# Altium footprint library XG_DW_POCT_2K10LED_V2.0_2024.11.151.PcbLib: 120 footprints (part 1 of 8)
Each footprint in its own frame and in the unit in brackets; x right, y up, seen from the top. Pads: shape width x height; smd on the part's side, far side on the other; paste and mask are expansions set on the pad; w line width, h text height; cw(c..) or ccw(c..) is an arc to the next point about the centre after c.
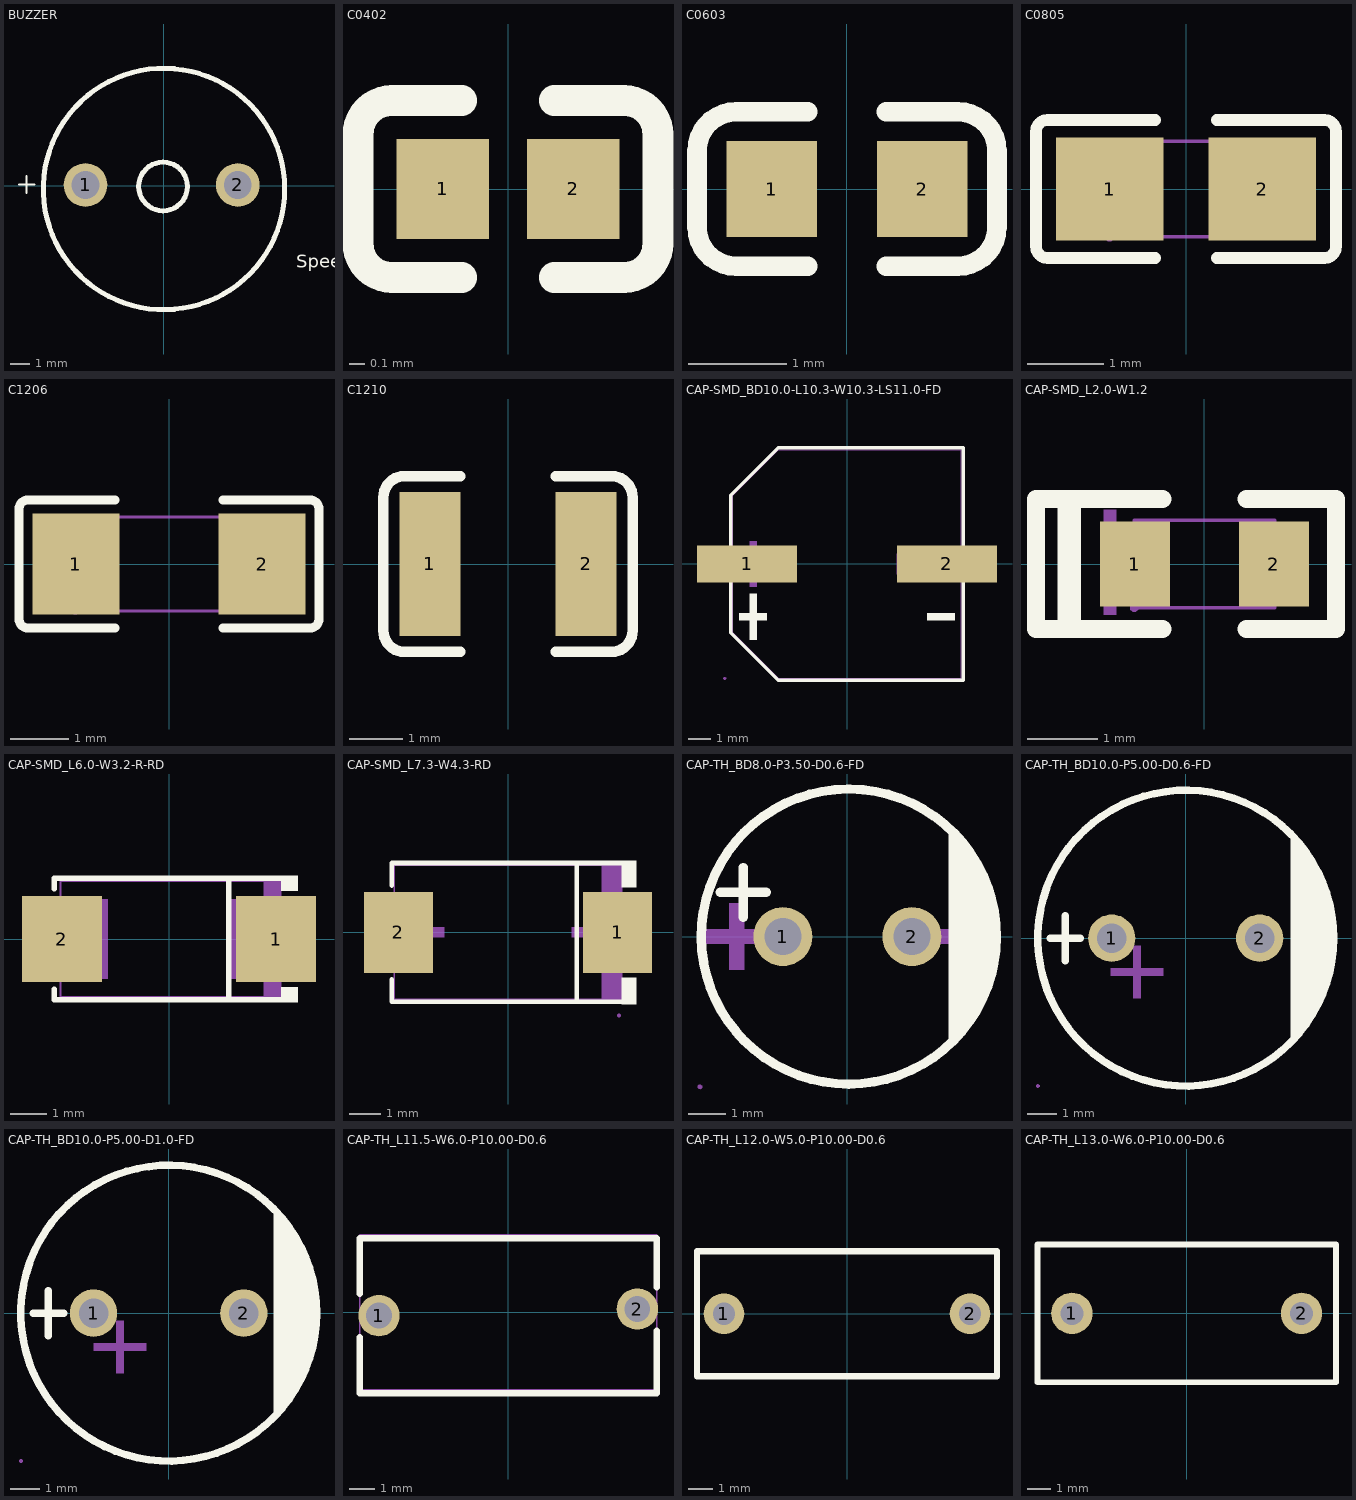
[diagram p0: the footprints below, top view; thin cyan lines are the x and y axes]

## BUZZER [mm]
height 9.6
pads (2):
  round 2.2 hole 1.4: 1(-3.937,0.051) 2(3.734,0.051)
Top Overlay:
  circle w0.254: c0.015,-0.152 r6.081
  circle w0.254: c-0.034,-0.025 r1.228
  lines w0.1: -7.29,0.076 -6.502,0.076 ; -6.909,-0.356 -6.909,0.508
  text "Speeker" at 6.68,-4.343 h1.14

## C0402 [mm]
pads (2):
  rect 0.6x0.65 smd mask+0.051: 1(-0.425,0) 2(0.425,0)
Top Overlay:
  lines w0.2: -0.755,-0.575 cw(c-0.755,-0.355) -0.975,-0.355 -0.975,0.355 cw(c-0.755,0.355) -0.755,0.575 ; -0.75,-0.575 -0.3,-0.575 ; -0.75,0.575 -0.3,0.575 ; 0.3,-0.575 0.75,-0.575 ; 0.3,0.575 0.75,0.575 ; 0.755,-0.575 ccw(c0.755,-0.355) 0.975,-0.355 0.975,0.355 ccw(c0.755,0.355) 0.755,0.575
3D body "0402 SMD Capacitor.step": height 0.2, standoff 0, extent -0.483,-0.3 0.517,0.3

## C0603 [mm]
pads (2):
  rect 0.93x0.98 smd: 1(-0.77,0) 2(0.77,0)
Top Overlay:
  lines w0.2: -0.4,-0.79 -1.135,-0.79 cw(c-1.135,-0.39) -1.535,-0.39 -1.535,0.39 cw(c-1.135,0.39) -1.135,0.79 -0.4,0.79 ; 0.4,-0.79 1.135,-0.79 ccw(c1.135,-0.39) 1.535,-0.39 1.535,0.39 ccw(c1.135,0.39) 1.135,0.79 0.4,0.79
3D body "User Library-0603 SMD Capacitor.STEP": height 0.3, standoff 0, extent -0.8,-0.4 0.8,0.4

## C0805 [mm]
pads (2):
  rect 1.41x1.35 smd paste-100 mask+0.051: 1(-1,0) 2(1,0)
Top Overlay:
  lines w0.152: -0.401,-0.904 -1.811,-0.904 cw(c-1.811,-0.751) -1.964,-0.751 -1.964,0.751 cw(c-1.811,0.751) -1.811,0.904 -0.401,0.904 ; 0.401,-0.904 1.811,-0.904 ccw(c1.811,-0.751) 1.964,-0.751 1.964,0.751 ccw(c1.811,0.751) 1.811,0.904 0.401,0.904
Top Paste:
  region: -1.705,-0.64 -1.705,0.64 -1.655,0.69 -0.505,0.69 -0.455,0.64 -0.45,0.23 -0.9,0.23 -0.9,-0.22 -0.46,-0.22 -0.455,-0.64 -0.505,-0.69 -1.655,-0.69
  region: 1.705,0.64 1.705,-0.64 1.655,-0.69 0.505,-0.69 0.455,-0.64 0.45,-0.23 0.9,-0.23 0.9,0.22 0.46,0.22 0.455,0.64 0.505,0.69 1.655,0.69
Mechanical 15:
  region: -1,-0.685 -0.976,-0.685 -0.941,-0.65 -0.941,-0.601 -0.976,-0.566 -1,-0.565 -1.024,-0.566 -1.059,-0.601 -1.059,-0.65 -1.024,-0.685 -1,-0.685
  region: -1,-0.625 -1,0.625 -0.5,0.625 -0.5,-0.625
  region: 1,0.625 1,-0.625 0.5,-0.625 0.5,0.625
  lines w0.051: -1,-0.625 -1,0.625 1,0.625 1,-0.625 -1,-0.625

## C1206 [mm]
pads (2):
  rect 1.485x1.728 smd paste-100 mask+0.051: 1(-1.593,0) 2(1.593,0)
Top Overlay:
  lines w0.152: -0.926,-1.093 -2.411,-1.093 cw(c-2.411,-0.94) -2.564,-0.94 -2.564,0.94 cw(c-2.411,0.94) -2.411,1.093 -0.926,1.093 ; 0.926,-1.093 2.411,-1.093 ccw(c2.411,-0.94) 2.564,-0.94 2.564,0.94 ccw(c2.411,0.94) 2.411,1.093 0.926,1.093
Top Paste:
  region: -0.85,-0.764 -0.85,-0.394 -0.95,-0.294 -1.255,-0.294 -1.355,-0.194 -1.355,0.194 -1.255,0.294 -0.95,0.294 -0.85,0.394 -0.85,0.764 -0.95,0.864 -2.235,0.864 -2.335,0.764 -2.335,-0.764 -2.235,-0.864 -0.95,-0.864
  region: 0.85,-0.764 0.85,-0.394 0.95,-0.294 1.255,-0.294 1.355,-0.194 1.355,0.194 1.255,0.294 0.95,0.294 0.85,0.394 0.85,0.764 0.95,0.864 2.235,0.864 2.335,0.764 2.335,-0.764 2.235,-0.864 0.95,-0.864
Mechanical 15:
  region: 1.6,-0.8 1.6,0.8 1.1,0.8 1.1,-0.8
  region: -1.6,-0.8 -1.6,0.8 -1.1,0.8 -1.1,-0.8
  region: -1.54,-0.8 -1.54,-0.775 -1.575,-0.74 -1.625,-0.74 -1.66,-0.775 -1.66,-0.8 -1.66,-0.825 -1.625,-0.86 -1.575,-0.86 -1.54,-0.825 -1.54,-0.8
  lines w0.051: -1.6,-0.8 1.6,-0.8 1.6,0.8 -1.6,0.8 -1.6,-0.8

## C1210 [mm]
pads (2):
  rect 1.16x2.72 smd: 1(-1.475,0) 2(1.475,0)
Top Overlay:
  lines w0.2: -0.9,-1.66 -1.955,-1.66 cw(c-1.955,-1.26) -2.355,-1.26 -2.355,1.26 cw(c-1.955,1.26) -1.955,1.66 -0.9,1.66 ; 0.9,-1.66 1.955,-1.66 ccw(c1.955,-1.26) 2.355,-1.26 2.355,1.26 ccw(c1.955,1.26) 1.955,1.66 0.9,1.66
3D body "User Library-cap_1210_lowprofile.step": height 1.3, standoff 0, extent -1.6,-1.25 1.6,1.25

## CAP-SMD_BD10.0-L10.3-W10.3-LS11.0-FD [mm]
pads (2):
  rect 4.5x1.65 smd: 1(-4.5,0) 2(4.5,0)
Top Overlay:
  region: 4.841,-2.215 4.841,-2.524 3.605,-2.524 3.605,-2.215
  region: -4.841,-2.215 -4.841,-2.524 -3.605,-2.524 -3.605,-2.215
  region: -4.378,-1.339 -4.378,-3.399 -4.069,-3.399 -4.069,-1.339
  lines w0.152: -5.226,-0.852 -5.226,-3.09 -3.09,-5.226 5.226,-5.226 5.226,-0.852 ; -5.226,0.852 -5.226,3.09 -3.09,5.226 5.226,5.226 5.226,0.852
Mechanical 6:
  region: 4.841,0.154 4.841,-0.155 3.605,-0.155 3.605,0.154
  region: -4.841,0.154 -4.841,-0.155 -3.605,-0.155 -3.605,0.154
  region: -4.378,1.03 -4.378,-1.03 -4.069,-1.03 -4.069,1.03
Mechanical 15:
  region: 2.25,0.45 5.5,0.45 5.5,-0.45 2.25,-0.45
  region: -5.5,0.45 -2.25,0.45 -2.25,-0.45 -5.5,-0.45
  region: -5.5,-5.09 -5.525,-5.091 -5.559,-5.126 -5.559,-5.175 -5.525,-5.21 -5.5,-5.21 -5.476,-5.21 -5.442,-5.175 -5.442,-5.126 -5.476,-5.091 -5.5,-5.09
  lines w0.051: -5.15,-3.09 -5.15,3.09 -3.09,5.15 5.15,5.15 5.15,-5.15 -3.09,-5.15 -5.15,-3.09

## CAP-SMD_L2.0-W1.2 [mil]
pads (2):
  rect 39.37x47.5 smd: 1(-39,0) 2(39,0)
Top Overlay:
  lines w10: -23.6,-36.5 -94.5,-36.5 -94.5,36.5 -23.6,36.5 ; 23.6,-36.5 73.8,-36.5 73.8,36.5 23.6,36.5
  lines w13: -75.8,-34.4 -75.8,34.4
Mechanical 6:
  region: -53,6 -22,6 -22,-2 -53,-2
  region: -41,-14.5 -41,16.5 -33,16.5 -33,-14.5
  region: 25,6 56,6 56,-2 25,-2
  region: -56.5,30.5 -49.5,30.5 -49.5,19.5 -56.5,19.5
  region: -49.5,-28.5 -56.5,-28.5 -56.5,-17.5 -49.5,-17.5
Mechanical 15:
  region: -41.73,-24.61 -41.71,-25.57 -40.33,-26.92 -38.41,-26.92 -37.03,-25.57 -37.01,-24.61 -37.03,-23.65 -38.41,-22.3 -40.33,-22.3 -41.71,-23.65 -41.73,-24.61
  region: -39.37,17.72 -21.65,17.72 -21.65,-17.72 -39.37,-17.72
  region: 21.65,17.72 39.37,17.72 39.37,-17.72 21.65,-17.72
  lines w2: -39.37,-24.61 -39.37,24.61 39.37,24.61 39.37,-24.61 -39.37,-24.61

## CAP-SMD_L6.0-W3.2-R-RD [mm]
pads (2):
  rect 2.207x2.376 smd: 1(2.961,0) 2(-2.961,0)
Top Overlay:
  region: 3.1,-1.752 3.1,-1.34 3.557,-1.34 3.557,-1.752
  region: 3.1,1.752 3.1,1.34 3.557,1.34 3.557,1.752
  lines w0.152: -3.176,-1.391 -3.176,-1.676 3.176,-1.676 ; -3.176,1.391 -3.176,1.676 3.176,1.676 ; 1.654,-1.676 1.654,1.676
Mechanical 6:
  region: 3.1,1.6 3.1,0.8 2.62,0.8 2.62,1.6
  region: 3.1,-1.6 3.1,-0.8 2.62,-0.8 2.62,-1.6
  region: 2.5,-0.8 2.5,0.8 2.26,0.8 2.26,-0.8
  region: 2.86,-0.12 2.86,0.12 1.9,0.12 1.9,-0.12
  region: -2.86,-0.12 -2.86,0.12 -1.9,0.12 -1.9,-0.12
Mechanical 15:
  region: 3,-1.1 3,1.1 1.7,1.1 1.7,-1.1
  region: -3,-1.1 -3,1.1 -1.7,1.1 -1.7,-1.1
  region: 3.06,-1.6 3.06,-1.575 3.025,-1.54 2.975,-1.54 2.94,-1.575 2.94,-1.6 2.94,-1.625 2.975,-1.66 3.025,-1.66 3.06,-1.625 3.06,-1.6
  lines w0.051: -3,-1.6 3,-1.6 3,1.6 -3,1.6 -3,-1.6

## CAP-SMD_L7.3-W4.3-RD [mm]
pads (2):
  rect 2.207x2.592 smd: 1(3.511,0) 2(-3.511,0)
Top Overlay:
  region: 3.65,-2.302 3.65,-1.448 4.107,-1.448 4.107,-2.302
  region: 3.65,2.302 3.65,1.448 4.107,1.448 4.107,2.302
  lines w0.152: -3.726,-1.499 -3.726,-2.226 3.726,-2.226 ; -3.726,1.499 -3.726,2.226 3.726,2.226 ; 2.204,-2.226 2.204,2.226
Mechanical 6:
  region: 3.65,2.15 3.65,1.075 3.005,1.075 3.005,2.15
  region: 3.65,-2.15 3.65,-1.075 3.005,-1.075 3.005,-2.15
  region: 2.844,-1.075 2.844,1.075 2.521,1.075 2.521,-1.075
  region: 3.328,-0.161 3.328,0.161 2.038,0.161 2.038,-0.161
  region: -3.328,-0.161 -3.328,0.161 -2.038,0.161 -2.038,-0.161
Mechanical 15:
  region: 3.88,-1.2 3.88,1.2 2.58,1.2 2.58,-1.2
  region: -3.88,-1.2 -3.88,1.2 -2.58,1.2 -2.58,-1.2
  region: 3.616,-2.667 3.616,-2.642 3.581,-2.607 3.531,-2.607 3.496,-2.642 3.496,-2.667 3.496,-2.692 3.531,-2.727 3.581,-2.727 3.616,-2.692 3.616,-2.667
  lines w0.051: -3.65,-2.15 3.65,-2.15 3.65,2.15 -3.65,2.15 -3.65,-2.15

## CAP-TH_BD8.0-P3.50-D0.6-FD [mm]
pads (2):
  round 1.6 hole 1: 1(-1.75,0) 2(1.75,0)
Top Overlay:
  region: 2.75,-3 2.941,-2.8 3.268,-2.355 3.536,-1.872 3.741,-1.359 3.88,-0.824 3.95,-0.276 3.95,0.276 3.88,0.824 3.741,1.359 3.536,1.872 3.268,2.355 2.941,2.8 2.75,3
  lines w0.254: -3.445,1.2 -2.2,1.2 ; -2.822,0.527 -2.822,1.873 ; 0.003,4 ccw(c0.038,0.001) 0.074,4
Mechanical 6:
  region: 3.5,0.2 2.1,0.2 2.1,-0.2 3.7,-0.2 3.9,-0.2 3.9,0.2
  region: -2.5,0.2 -3.9,0.2 -3.9,-0.2 -2.3,-0.2 -2.1,-0.2 -2.1,0.2
  region: -3.2,0.5 -3.2,-0.9 -2.8,-0.9 -2.8,0.7 -2.8,0.9 -3.2,0.9
Mechanical 15:
  region: -3.941,-4.072 -3.941,-4.047 -3.976,-4.012 -4.026,-4.012 -4.061,-4.047 -4.061,-4.072 -4.061,-4.096 -4.026,-4.132 -3.976,-4.132 -3.941,-4.096 -3.941,-4.072
  region: 2.05,0 2.049,0.059 2.003,0.168 1.919,0.251 1.809,0.296 1.691,0.296 1.581,0.251 1.497,0.168 1.451,0.059 1.45,0 1.451,-0.059 1.497,-0.168 1.581,-0.251 1.691,-0.296 1.809,-0.296 1.919,-0.251 2.003,-0.168 2.049,-0.059 2.05,0
  region: -1.45,0 -1.451,0.059 -1.497,0.168 -1.581,0.251 -1.691,0.296 -1.809,0.296 -1.919,0.251 -2.003,0.168 -2.049,0.059 -2.05,0 -2.049,-0.059 -2.003,-0.168 -1.919,-0.251 -1.809,-0.296 -1.691,-0.296 -1.581,-0.251 -1.497,-0.168 -1.451,-0.059 -1.45,0
  lines w0.051: -0.003,-4.072 cw(c-0.001,-0.072) 0,-4.072 -0.003,-4.072

## CAP-TH_BD10.0-P5.00-D0.6-FD [mm]
pads (2):
  round 1.6 hole 1 paste+0 mask+0.05: 1(-2.5,0) 2(2.5,0)
Top Overlay:
  circle w0.254: c0,0 r5
  region: 3.556,3.556 3.556,-3.556 4.318,-2.54 4.826,-1.016 5.08,0.508 4.826,1.524
  lines w0.254: -4.572,0 -3.556,0 ; -4.064,-0.762 -4.064,0.762
Mechanical 6:
  region: -1.778,-0.762 -1.778,-2.032 -1.524,-2.032 -1.524,-0.254 -1.778,-0.254
  region: -2.54,-1.016 -0.762,-1.016 -0.762,-1.27 -2.54,-1.27
Mechanical 15:
  region: -4.94,-5 -4.941,-4.976 -4.976,-4.942 -5.024,-4.941 -5.059,-4.976 -5.06,-5 -5.059,-5.024 -5.025,-5.058 -4.976,-5.058 -4.941,-5.024 -4.94,-5
  region: 2.8,0 2.8,0.06 2.754,0.17 2.67,0.254 2.56,0.3 2.44,0.3 2.33,0.255 2.245,0.17 2.2,0.06 2.2,0 2.2,-0.06 2.245,-0.17 2.33,-0.254 2.44,-0.3 2.56,-0.3 2.67,-0.254 2.754,-0.17 2.8,-0.06 2.8,0
  region: -2.2,0 -2.2,0.06 -2.246,0.17 -2.33,0.254 -2.44,0.3 -2.56,0.3 -2.67,0.255 -2.754,0.17 -2.8,0.06 -2.8,0 -2.8,-0.06 -2.755,-0.17 -2.67,-0.254 -2.56,-0.3 -2.44,-0.3 -2.33,-0.254 -2.246,-0.17 -2.2,-0.06 -2.2,0
  lines w0.051: -5,0 cw(c0,0) 5,0 cw(c0,0) -5,0

## CAP-TH_BD10.0-P5.00-D1.0-FD [mm]
pads (2):
  round 1.6 hole 1: 1(-2.54,0) 2(2.54,0)
Top Overlay:
  circle w0.254: c0,0 r5
  region: 3.556,3.556 3.556,-3.556 4.318,-2.54 4.826,-1.016 5.08,0.508 4.826,1.524
  lines w0.254: -4.572,0 -3.556,0 ; -4.064,-0.762 -4.064,0.762
Mechanical 6:
  region: -2.54,-1.016 -0.762,-1.016 -0.762,-1.27 -2.54,-1.27
  region: -1.778,-0.762 -1.778,-2.032 -1.524,-2.032 -1.524,-0.254 -1.778,-0.254
Mechanical 15:
  region: -4.94,-5 -4.94,-4.975 -4.975,-4.94 -5.025,-4.94 -5.06,-4.975 -5.06,-5 -5.06,-5.025 -5.025,-5.06 -4.975,-5.06 -4.94,-5.025 -4.94,-5
  region: 2.84,0 2.839,0.059 2.793,0.168 2.709,0.251 2.599,0.296 2.481,0.296 2.371,0.251 2.287,0.168 2.241,0.059 2.24,0 2.241,-0.059 2.287,-0.168 2.371,-0.251 2.481,-0.296 2.599,-0.296 2.709,-0.251 2.793,-0.168 2.839,-0.059 2.84,0
  region: -2.24,0 -2.241,0.059 -2.287,0.168 -2.371,0.251 -2.481,0.296 -2.599,0.296 -2.709,0.251 -2.793,0.168 -2.839,0.059 -2.84,0 -2.839,-0.059 -2.793,-0.168 -2.709,-0.251 -2.599,-0.296 -2.481,-0.296 -2.371,-0.251 -2.287,-0.168 -2.241,-0.059 -2.24,0
  lines w0.051: -5,0 cw(c0,0) 5,0 cw(c0,0) -5,0

## CAP-TH_L11.5-W6.0-P10.00-D0.6 [mm]
pads (2):
  round 1.6 hole 1 paste+0 mask+0.05: 1(-5,-0.127) 2(5,0.127)
Top Overlay:
  lines w0.254: -5.75,-0.973 -5.75,-3.127 5.75,-3.127 5.75,-0.719 ; -5.75,0.719 -5.75,2.873 5.75,2.873 5.75,0.973
Mechanical 15:
  region: -4.7,-0.127 -4.7,-0.067 -4.746,0.043 -4.83,0.127 -4.94,0.173 -5.06,0.173 -5.17,0.127 -5.254,0.043 -5.3,-0.067 -5.3,-0.127 -5.3,-0.187 -5.254,-0.297 -5.17,-0.381 -5.06,-0.427 -4.94,-0.427 -4.83,-0.381 -4.746,-0.297 -4.7,-0.187 -4.7,-0.127
  region: 5.3,0.127 5.3,0.187 5.254,0.297 5.17,0.381 5.06,0.427 4.94,0.427 4.83,0.381 4.746,0.297 4.7,0.187 4.7,0.127 4.7,0.067 4.746,-0.043 4.83,-0.127 4.94,-0.173 5.06,-0.173 5.17,-0.127 5.254,-0.043 5.3,0.067 5.3,0.127
  region: -5.69,-3 -5.691,-2.976 -5.726,-2.943 -5.774,-2.943 -5.809,-2.976 -5.81,-3 -5.809,-3.024 -5.774,-3.057 -5.726,-3.057 -5.691,-3.024 -5.69,-3
  lines w0.051: -5.75,-3 5.75,-3 5.75,3 -5.75,3 -5.75,-3

## CAP-TH_L12.0-W5.0-P10.00-D0.6 [mm]
pads (2):
  round 1.65 hole 0.9: 1(-5,0) 2(5,0)
Top Overlay:
  lines w0.254: -6.096,-2.54 -6.096,2.54 6.096,2.54 6.096,-2.54 -6.096,-2.54
Mechanical 15:
  region: 5.3,0 5.3,0.06 5.254,0.17 5.17,0.254 5.06,0.3 4.94,0.3 4.83,0.254 4.746,0.17 4.7,0.06 4.7,0 4.7,-0.06 4.746,-0.17 4.83,-0.254 4.94,-0.3 5.06,-0.3 5.17,-0.254 5.254,-0.17 5.3,-0.06 5.3,0
  region: -4.7,0 -4.7,0.06 -4.746,0.17 -4.83,0.254 -4.94,0.3 -5.06,0.3 -5.17,0.254 -5.254,0.17 -5.3,0.06 -5.3,0 -5.3,-0.06 -5.254,-0.17 -5.17,-0.254 -5.06,-0.3 -4.94,-0.3 -4.83,-0.254 -4.746,-0.17 -4.7,-0.06 -4.7,0
  region: -5.94,-2.5 -5.94,-2.475 -5.975,-2.44 -6.025,-2.44 -6.06,-2.475 -6.06,-2.5 -6.06,-2.525 -6.025,-2.56 -5.975,-2.56 -5.94,-2.525 -5.94,-2.5
  lines w0.051: -6,-2.5 -6,2.5 6,2.5 6,-2.5 -6,-2.5

## CAP-TH_L13.0-W6.0-P10.00-D0.6 [mm]
pads (2):
  round 1.8 hole 1: 1(-5,0) 2(5,0)
Top Overlay:
  lines w0.254: -6.5,-3 6.5,-3 6.5,3 -6.5,3 -6.5,-3
Mechanical 15:
  region: -6.44,-3 -6.44,-2.975 -6.475,-2.94 -6.525,-2.94 -6.56,-2.975 -6.56,-3 -6.56,-3.025 -6.525,-3.06 -6.475,-3.06 -6.44,-3.025 -6.44,-3
  region: 5.3,0 5.3,0.06 5.254,0.169 5.17,0.253 5.059,0.299 4.94,0.299 4.83,0.253 4.746,0.169 4.7,0.059 4.7,0 4.7,-0.06 4.746,-0.169 4.83,-0.253 4.941,-0.299 5.06,-0.299 5.17,-0.253 5.254,-0.169 5.3,-0.06 5.3,0
  region: -4.7,0 -4.7,0.06 -4.746,0.169 -4.83,0.253 -4.94,0.299 -5.06,0.299 -5.17,0.253 -5.254,0.169 -5.3,0.059 -5.3,0 -5.3,-0.06 -5.254,-0.169 -5.169,-0.253 -5.059,-0.299 -4.94,-0.299 -4.83,-0.253 -4.746,-0.169 -4.7,-0.06 -4.7,0
  lines w0.051: -6.5,-3 -6.5,3 6.5,3 6.5,-3 -6.5,-3